# Altium footprint library PCAD_LAB01.PcbLib: 5 footprints
Each footprint in its own frame and in the unit in brackets; x right, y up, seen from the top. Pads: shape width x height; smd on the part's side, far side on the other; paste and mask are expansions set on the pad; w line width, h text height; cw(c..) or ccw(c..) is an arc to the next point about the centre after c.
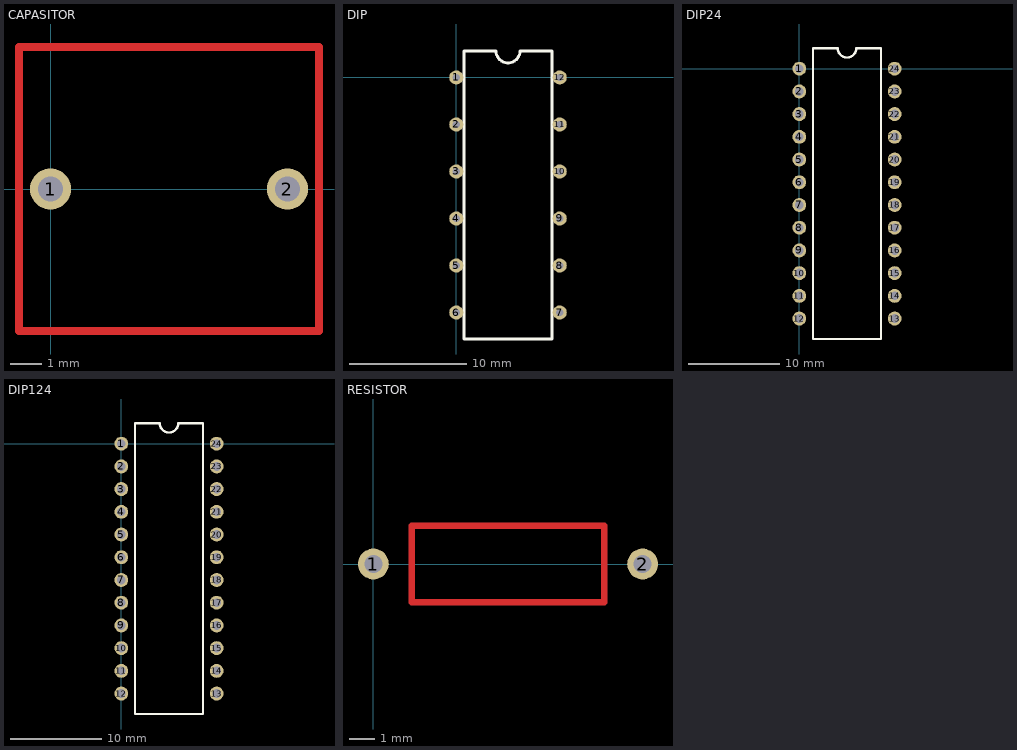
[diagram p0: the footprints below, top view; thin cyan lines are the x and y axes]

## CAPASITOR [mm]
pads (2):
  round 1.3 hole 0.8: 1(0,0) 2(7.5,0)
Top Layer:
  lines w0.254: -1,-4.5 8.5,-4.5 8.5,4.5 -1,4.5 -1,-4.5

## DIP [mm]
pads (12):
  round 1.2 hole 0.6: 1(0,0) 2(0,-4) 3(0,-8) 4(0,-12) 5(0,-16) 6(0,-20) 7(8.8,-20) 8(8.8,-16) 9(8.8,-12) 10(8.8,-8) 11(8.8,-4) 12(8.8,0)
Top Overlay:
  lines w0.254: 0.65,-22.25 8.15,-22.25 8.15,2.25 5.416,2.25 cw(c4.4,2.25) 3.384,2.25 0.65,2.25 0.65,-22.25

## DIP24 [mil]
pads (24):
  round 60 hole 38: 1(0,0) 2(0,-98.43) 3(0,-196.85) 4(0,-295.28) 5(0,-393.7) 6(0,-492.13) 7(0,-590.55) 8(0,-688.98) 9(0,-787.4) 10(0,-885.83) 11(0,-984.25) 12(0,-1082.68) 13(413.39,-1082.68) 14(413.39,-984.25) 15(413.39,-885.83) 16(413.39,-787.4) 17(413.39,-688.98) 18(413.39,-590.55) 19(413.39,-492.13) 20(413.39,-393.7) 21(413.39,-295.28) 22(413.39,-196.85) 23(413.39,-98.43) 24(413.39,0)
Top Overlay:
  lines w10: 59.06,-1171.26 354.33,-1171.26 354.33,88.58 246.69,88.58 cw(c206.69,88.58) 166.69,88.58 59.06,88.58 59.06,-1171.26

## DIP124 [mil]
pads (24):
  round 60 hole 38: 1(0,0) 2(0,-98.43) 3(0,-196.85) 4(0,-295.28) 5(0,-393.7) 6(0,-492.13) 7(0,-590.55) 8(0,-688.98) 9(0,-787.4) 10(0,-885.83) 11(0,-984.25) 12(0,-1082.68) 13(413.39,-1082.68) 14(413.39,-984.25) 15(413.39,-885.83) 16(413.39,-787.4) 17(413.39,-688.98) 18(413.39,-590.55) 19(413.39,-492.13) 20(413.39,-393.7) 21(413.39,-295.28) 22(413.39,-196.85) 23(413.39,-98.43) 24(413.39,0)
Top Overlay:
  lines w10: 59.06,-1171.26 354.33,-1171.26 354.33,88.58 246.69,88.58 cw(c206.69,88.58) 166.69,88.58 59.06,88.58 59.06,-1171.26

## RESISTOR [mm]
pads (2):
  round 1.2 hole 0.7: 1(0,0) 2(10.5,0)
Top Layer:
  lines w0.254: 1.5,-1.5 8.5,-1.5 9,-1.5 9,1.5 1.5,1.5 1.5,-1.5